# EAGLE library part AX5151 (library axsem_v4-11)
AXSEM low cost ASK/FSK/PSK ISM transceiver
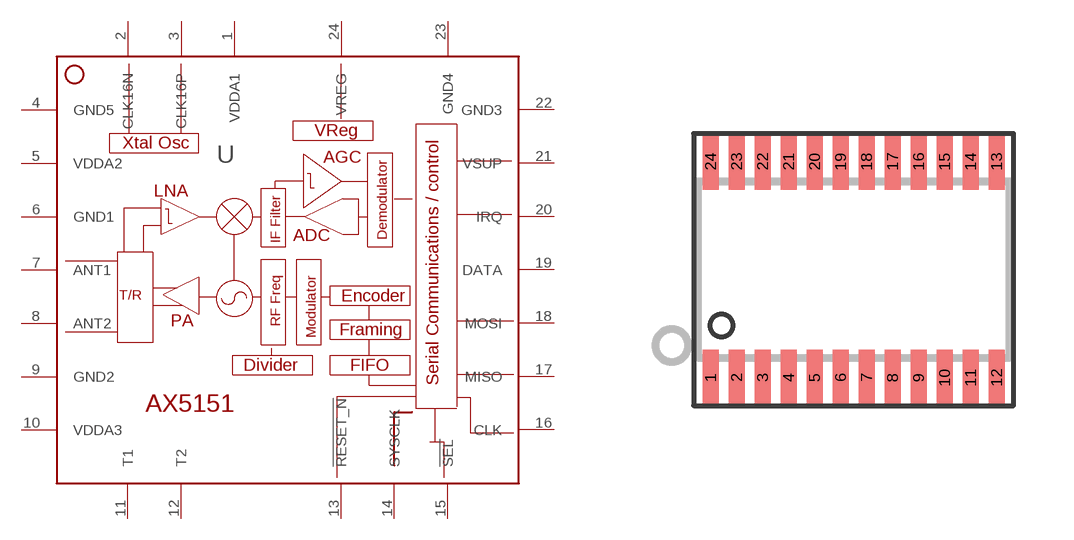
[diagram p5: symbol with the pads of TSSOP24; footprint TSSOP24]

Designator prefix U

## AX5151N  [TSSOP24]
1  VDDA1  pwr
2  CLK16N  pas
3  CLK16P  pas
4  GND5  pwr
5  VDDA2  pwr
6  GND1  pwr
7  ANT1  pas
8  ANT2  pas
9  GND2  pwr
10  VDDA3  pwr
11  T1  nc
12  T2  nc
13  !RESET_N  in
14  SYSCLK  out
15  !SEL  in
16  CLK  in
17  MISO  out
18  MOSI  in
19  DATA  nc
20  IRQ  out
21  VSUP  pwr
22  GND3  nc
23  GND4  pwr
24  VREG  pwr

## Footprint TSSOP24 (pad centres in mm)
TSSOP package for AXSEM AX51xx RF products
smd 0.4 x 1.4: 1 -3.575,-2.7; 2 -2.925,-2.7; 3 -2.275,-2.7; 4 -1.625,-2.7; 5 -0.975,-2.7; 6 -0.325,-2.7; 7 0.325,-2.7; 8 0.975,-2.7; 9 1.625,-2.7; 10 2.275,-2.7; 11 2.925,-2.7; 12 3.575,-2.7; 13 3.575,2.7; 14 2.925,2.7; 15 2.275,2.7; 16 1.625,2.7; 17 0.975,2.7; 18 0.325,2.7; 19 -0.325,2.7; 20 -0.975,2.7; 21 -1.625,2.7; 22 -2.275,2.7; 23 -2.925,2.7; 24 -3.575,2.7